# EAGLE library part LOGIC-4009 (library tidyeagle)
4009 Hex Inverter & Optional Level Converter Datasheet: Texas Instruments CD4009UB <http://www.ti.com/lit/ds/symlink/cd4010b.pdf> This level converting hex inverter has high-to-low voltage conversion capabilities, not low to high. VCC must not exceed VDD. Application Notes: Supply: 3v - 18v VDD is supply and input logic HIGH. VCC is output supply and output logic HIGH. Power VCC and VDD from the same supply if you only want the inverting function and not the level conversion.
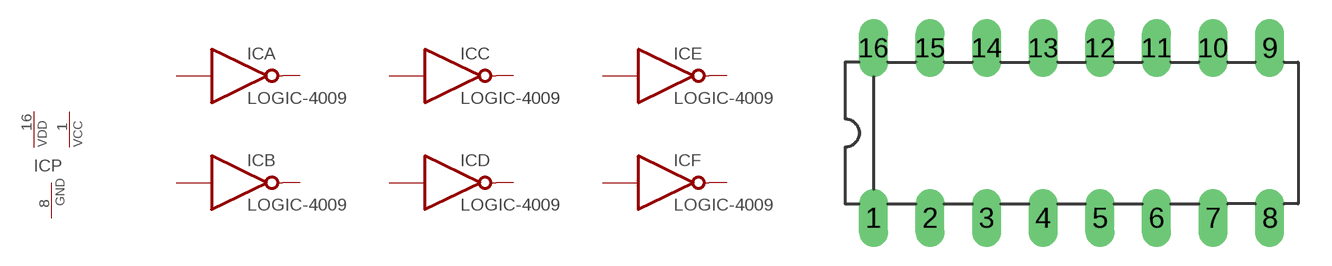
[diagram p28: symbol with the pads of DIL16-3; footprint DIL16-3]

Designator prefix IC; gates P=LOGIC-CONVERTER-PWR A=LOGIC-INVERTER B=LOGIC-INVERTER C=LOGIC-INVERTER D=LOGIC-INVERTER E=LOGIC-INVERTER F=LOGIC-INVERTER

## LOGIC-4009-DIL16  [DIL16-3]
1  P:VCC  pwr
2  A:OUT
3  A:IN
4  B:OUT
5  B:IN
6  C:OUT
7  C:IN
8  P:GND  pwr
9  D:IN
10  D:OUT
11  E:IN
12  E:OUT
14  F:IN
15  F:OUT
16  P:VDD  pwr

## Footprint DIL16-3 (pad centres in mm)
drill 0.8 long: 1 -8.89,-3.81; 2 -6.35,-3.81; 3 -3.81,-3.81; 4 -1.27,-3.81; 5 1.27,-3.81; 6 3.81,-3.81; 7 6.35,-3.81; 8 8.89,-3.81; 9 8.89,3.81; 10 6.35,3.81; 11 3.81,3.81; 12 1.27,3.81; 13 -1.27,3.81; 14 -3.81,3.81; 15 -6.35,3.81; 16 -8.89,3.81